# EAGLE library part BTS7741G (library Labor)
H-Bridge DC Motor driver Quad D-MOS switch driver Free configurable as bridge or quad-switch Optimized for DC motor management applications Low RDS ON: 110 m? high-side switch, 100 m? low-side switch (typical values @ 25 °C) Maximum peak current: typ. 10 A @ 25 °C Very low quiescent current: typ. 5 ?A @ 25 °C Small outline, enhanced power P-DSO-package Full short-circuit-protection Operates up to 40 V Status flag diagnosis Overtemperature shut down with hysteresis Internal clamp diodes Open load detection in Off-mode Under-voltage detection with hysteresis PWM frequencies up to 1 kHz
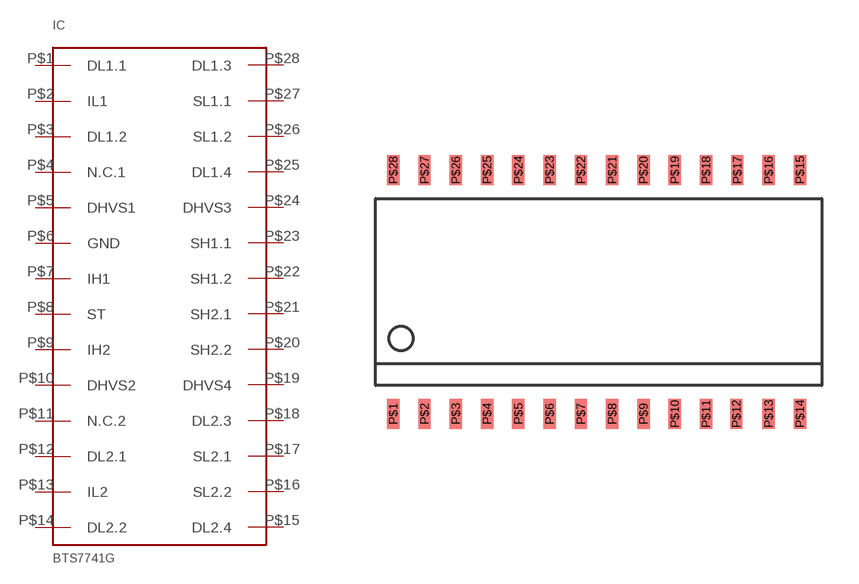
[diagram p3: symbol with the pads of P-DSO-28-14; footprint P-DSO-28-14]

Designator prefix IC

## BTS7741G  [P-DSO-28-14]
P$1  DL1.1  in
P$2  IL1  in
P$3  DL1.2  in
P$4  N.C.1  nc
P$5  DHVS1  pwr
P$6  GND  sup
P$7  IH1  in
P$8  ST  out
P$9  IH2  in
P$10  DHVS2  pwr
P$11  N.C.2  nc
P$12  DL2.1  in
P$13  IL2  in
P$14  DL2.2  in
P$15  DL2.4  in
P$16  SL2.2  out
P$17  SL2.1  out
P$18  DL2.3  in
P$19  DHVS4  pwr
P$20  SH2.2  out
P$21  SH2.1  out
P$22  SH1.2  out
P$23  SH1.1  out
P$24  DHVS3  pwr
P$25  DL1.4  in
P$26  SL1.2  out
P$27  SL1.1  out
P$28  DL1.3  in

## Footprint P-DSO-28-14 (pad centres in mm)
P-DSO-28-14 (Plastic Transistor Single Outline Package)
smd 0.5 x 1.2: P$1 -8.34,-4.95; P$2 -7.07,-4.95; P$3 -5.8,-4.95; P$4 -4.53,-4.95; P$5 -3.26,-4.95; P$6 -1.99,-4.95; P$7 -0.72,-4.95; P$8 0.55,-4.95; P$9 1.82,-4.95; P$10 3.09,-4.95; P$11 4.36,-4.95; P$12 5.59,-4.95; P$13 6.9,-4.95; P$14 8.17,-4.95; P$15 8.17,4.95; P$16 6.9,4.95; P$17 5.63,4.95; P$18 4.36,4.95; P$19 3.09,4.95; P$20 1.82,4.95; P$21 0.55,4.95; P$22 -0.72,4.95; P$23 -1.99,4.95; P$24 -3.26,4.95; P$25 -4.53,4.95; P$26 -5.8,4.95; P$27 -7.07,4.95; P$28 -8.34,4.95